# Altium footprint library CRCW060347K5FKEA.PcbLib: 3 footprints
Each footprint in its own frame and in the unit in brackets; x right, y up, seen from the top. Pads: shape width x height; smd on the part's side, far side on the other; paste and mask are expansions set on the pad; w line width, h text height; cw(c..) or ccw(c..) is an arc to the next point about the centre after c.
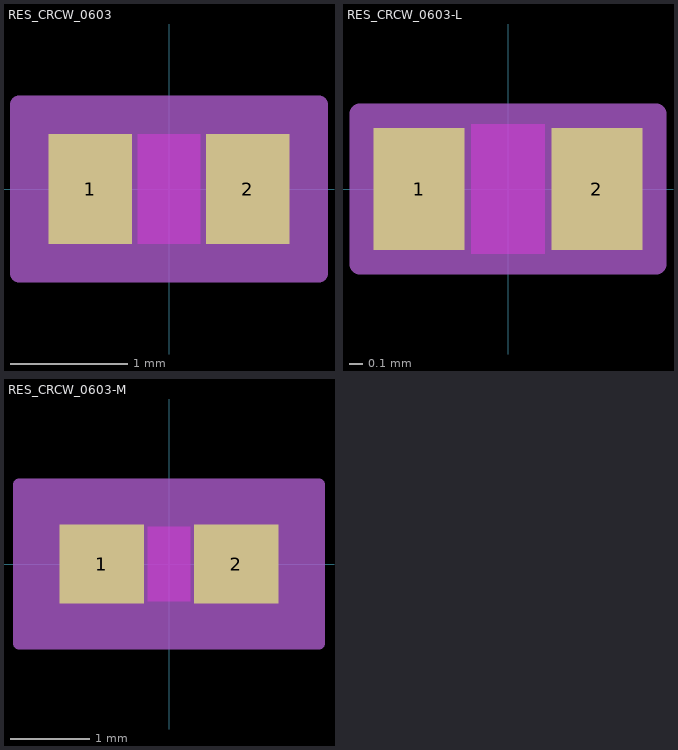
[diagram p0: the footprints below, top view; thin cyan lines are the x and y axes]

## RES_CRCW_0603 [mil]
pads (2):
  rect 28x37 smd paste-18.5 mask-18.5: 1(-26.5,0) 2(26.5,0)
Top Layer keep-out:
  region: -10.5,-16.5 -10.5,16.5 10.5,16.5 10.5,-16.5
Top Overlay:
  text ".Designator" at -137.5,-25 h50
Keep-Out Layer:
  region: -10.5,-18.5 -10.5,18.5 10.5,18.5 10.5,-18.5
Mechanical 13:
  lines w1: -32.5,-18.5 -32.5,18.5 ; -32.5,-18.5 32.5,-18.5 ; -32.5,-18.5 -12.5,-18.5 -12.5,18.5 -32.5,18.5 ; -32.5,-18.5 -32.5,18.5 ; -32.5,18.5 32.5,18.5 ; 32.5,-18.5 32.5,18.5 ; 32.5,-18.5 32.5,18.5 ; 32.5,-18.5 12.5,-18.5 12.5,18.5 32.5,18.5
  text ".Designator" at -137.5,-25 h50
Mechanical 15:
  region: 50.5,-28.5 -50.5,-28.5 -50.5,28.5 50.5,28.5
  lines w6: -50.5,-28.5 50.5,-28.5 50.5,28.5 -50.5,28.5 -50.5,-28.5
3D body "RES_CRCW_0603.step": height 20, standoff 0, extent -32.52,-18.5 32.52,18.5

## RES_CRCW_0603-L [mil]
pads (2):
  rect 26x35 smd paste+0 mask+0: 1(-25.5,0) 2(25.5,0)
Top Layer keep-out:
  region: -10.5,-16.5 -10.5,16.5 10.5,16.5 10.5,-16.5
Top Overlay:
  text ".Designator" at -137.5,-25 h50
Keep-Out Layer:
  region: -10.5,-18.5 -10.5,18.5 10.5,18.5 10.5,-18.5
Mechanical 13:
  lines w1: -32.5,-18.5 -32.5,18.5 ; -32.5,-18.5 -12.5,-18.5 -12.5,18.5 -32.5,18.5 ; -32.5,-18.5 32.5,-18.5 ; -32.5,-18.5 -32.5,18.5 ; -32.5,18.5 32.5,18.5 ; 32.5,-18.5 12.5,-18.5 12.5,18.5 32.5,18.5 ; 32.5,-18.5 32.5,18.5 ; 32.5,-18.5 32.5,18.5
  text ".Designator" at -137.5,-25 h50
Mechanical 15:
  region: 42.5,-21.5 -42.5,-21.5 -42.5,21.5 42.5,21.5
  lines w6: -42.5,-21.5 -42.5,21.5 42.5,21.5 42.5,-21.5 -42.5,-21.5
3D body "RES_CRCW_0603.step": height 20, standoff 0, extent -32.52,-18.5 32.52,18.5

## RES_CRCW_0603-M [mil]
pads (2):
  rect 42x39 smd paste+0 mask+0: 1(-33.5,0) 2(33.5,0)
Top Layer keep-out:
  region: -10.5,-16.5 -10.5,16.5 10.5,16.5 10.5,-16.5
Top Overlay:
  text ".Designator" at -137.5,45 h50
Keep-Out Layer:
  region: -10.5,-18.5 -10.5,18.5 10.5,18.5 10.5,-18.5
Mechanical 13:
  lines w1: -32.5,-18.5 -32.5,18.5 ; -32.5,-18.5 -12.5,-18.5 -12.5,18.5 -32.5,18.5 ; -32.5,-18.5 32.5,-18.5 ; -32.5,-18.5 -32.5,18.5 ; -32.5,18.5 32.5,18.5 ; 32.5,-18.5 12.5,-18.5 12.5,18.5 32.5,18.5 ; 32.5,-18.5 32.5,18.5 ; 32.5,-18.5 32.5,18.5
  text ".Designator" at -137.5,45 h50
Mechanical 15:
  region: 74.5,-39.5 -74.5,-39.5 -74.5,39.5 74.5,39.5
  lines w6: -74.5,-39.5 -74.5,39.5 74.5,39.5 74.5,-39.5 -74.5,-39.5
3D body "RES_CRCW_0603.step": height 20, standoff 0, extent -32.52,-18.5 32.52,18.5